# Altium integrated library ul_IS62WV1288BLL55HLI.IntLib: 2 symbols
Pins are listed as number, name and electrical type; pins without a type are passive.

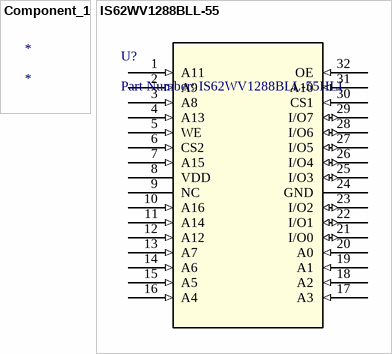
[diagram p0: symbols Component_1 to IS62WV1288BLL-55]

## Component_1
designator *

## IS62WV1288BLL-55
designator U?, comment Part Number: IS62WV1288BLL-55HLI
No Description Available; Vendor: ISSI; Built_By: EMA_Cory; SourceLibrary: ISSI_2019-12-02; Manufacturer_Part_Number: IS62WV1288BLL-55HLI; Copyright: Copyright (C) 2018 Accelerated Designs. All rights reserved; RefDes: RefDes; Type: DEV; Value: Value
footprint 32L_STSOP-1_H_IS
pins: 1 A11 (in), 2 A9 (in), 3 A8 (in), 4 A13 (in), 5 WE (in), 6 CS2 (in), 7 A15 (in), 8 VDD (power), 9 NC, 10 A16 (in), 11 A14 (in), 12 A12 (in), 13 A7 (in), 14 A6 (in), 15 A5 (in), 16 A4 (in), 17 A3 (in), 18 A2 (in), 19 A1 (in), 20 A0 (in), 21 I/O0 (io), 22 I/O1 (io), 23 I/O2 (io), 24 GND, 25 I/O3 (io), 26 I/O4 (io), 27 I/O5 (io), 28 I/O6 (io), 29 I/O7 (io), 30 CS1 (in), 31 A10 (in), 32 OE (in)